# EAGLE library part MBED-M3PI_3PI (library m3pi)
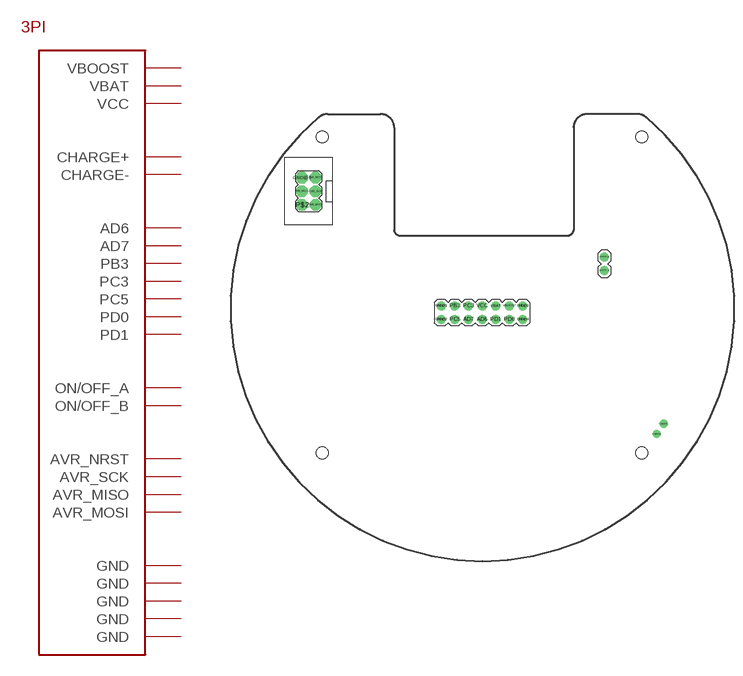
[diagram p4: symbol with the pads of MBED-M3PI_3PI; footprint MBED-M3PI_3PI]

Designator prefix -

## MBED-M3PI_3PI  [MBED-M3PI_3PI]
AD6  AD6
AD7  AD7
AVR_MISO  AVR_MISO
AVR_MOSI  AVR_MOSI
AVR_NRST  AVR_NRST
AVR_SCK  AVR_SCK
CHARGE+  CHARGE+  pwr
CHARGE-  CHARGE-  pwr
GND@1  GND
GND@2  GND
GND@3  GND
GND@4  GND
GND@5  GND
ON/OFF_A  ON/OFF_A
ON/OFF_B  ON/OFF_B
PB3  PB3
PC3  PC3
PC5  PC5
PD0  PD0
PD1  PD1
VBAT  VBAT
VBOOST  VBOOST
VCC  VCC

## Footprint MBED-M3PI_3PI (pad centres in mm)
drill 1 pad 1.676: AD6 0,-16.97; AD7 -2.54,-16.97; GND@1 -7.62,-14.43; GND@2 -7.62,-16.97; GND@3 7.62,-14.43; GND@4 7.62,-16.97; ON/OFF_A 22.86,-5.31; ON/OFF_B 22.86,-7.85; PB3 -5.08,-14.43; PC3 -2.54,-14.43; PC5 -5.08,-16.97; PD0 5.08,-16.97; PD1 2.54,-16.97; VBAT 2.54,-14.43; VBOOST 5.08,-14.43; VCC 0,-14.43
drill 1 pad 2.184 octagon: AVR_MISO -31.115,4.445; AVR_MOSI -33.655,6.985; AVR_NRST -31.115,9.525; AVR_SCK -31.115,6.985; GND@5 -33.655,9.525; P$2 -33.655,4.445
drill 1: CHARGE+ 33.925,-36.465; CHARGE- 32.655,-38.37
hole 2.2 at -29.845,-41.91
hole 2.2 at 29.845,-41.91
hole 2.2 at 29.845,17.145
hole 2.2 at -29.845,17.145